# EAGLE library part TLV7111233DSER (library TLV7111233DSER)
Dual, 200mA, Low-IQ, Low-Dropout Regulator for Portable Devices Source: Datasheet <http://www.ti.com/lit/gpn/tlv711>
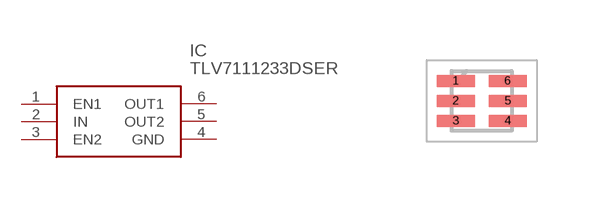
[diagram p0: symbol with the pads of SON50P150X150X80-6N; footprint SON50P150X150X80-6N]

Designator prefix IC

## TLV7111233DSER (Description: Dual, 200mA, Low-IQ, Low-Dropout Regulator for Portable Devices; Height: 0.8mm; Manufacturer_Name: Texas Instruments; Manufacturer_Part_Number: TLV7111233DSER; Mouser_Part_Number: 595-TLV7111233DSER; Mouser_Price-Stock: https://www.mouser.co.uk/ProductDetail/Texas-Instruments/TLV7111233DSER?qs=cBe3DO7yhR4lodgkJN%2FvTA%3D%3D)  [SON50P150X150X80-6N]
1  EN1
2  IN
3  EN2
4  GND
5  OUT2
6  OUT1

## Footprint SON50P150X150X80-6N (pad centres in mm)
wson
smd 0.95 x 0.3: 1 -0.65,0.5; 2 -0.65,0; 3 -0.65,-0.5; 4 0.65,-0.5; 5 0.65,0; 6 0.65,0.5